# Altium schematic symbol library Jumper 2X2.SchLib: 1 symbol
Pins are listed as number, name and electrical type; pins without a type are passive.

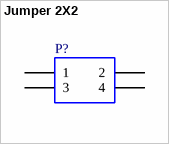
[diagram p0: symbol Jumper 2X2]

## Jumper 2X2
designator P?
Jumper / select header, 2×2, 4-Pin
pins: 1, 2, 3, 4